# Altium integrated library CERAMIC-CAP-106-25V-RAD.IntLib: 1 symbol
Pins are listed as number, name and electrical type; pins without a type are passive.

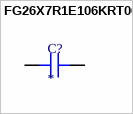
[diagram p0: symbol FG26X7R1E106KRT06]

## FG26X7R1E106KRT06
designator C?
10 ÂµF Â±10% 25V Ceramic Capacitor X7R Radial; MF: TDK; MP: FG26X7R1E106KRT06; SnapEDA_Link: https://www.snapeda.com/parts/FG26X7R1E106KRT06/TDK/view-part/?ref=snap; Package: Radial TDK; Value: *; Check_prices: https://www.snapeda.com/parts/FG26X7R1E106KRT06/TDK/view-part/?ref=eda
footprint CAPRB500W50L550T350H600
pins: 1, 2